# Altium footprint library Power_Protection_Fuses_Ceramic_SMD.PcbLib: 1 footprints
Each footprint in its own frame and in the unit in brackets; x right, y up, seen from the top. Pads: shape width x height; smd on the part's side, far side on the other; paste and mask are expansions set on the pad; w line width, h text height; cw(c..) or ccw(c..) is an arc to the next point about the centre after c.
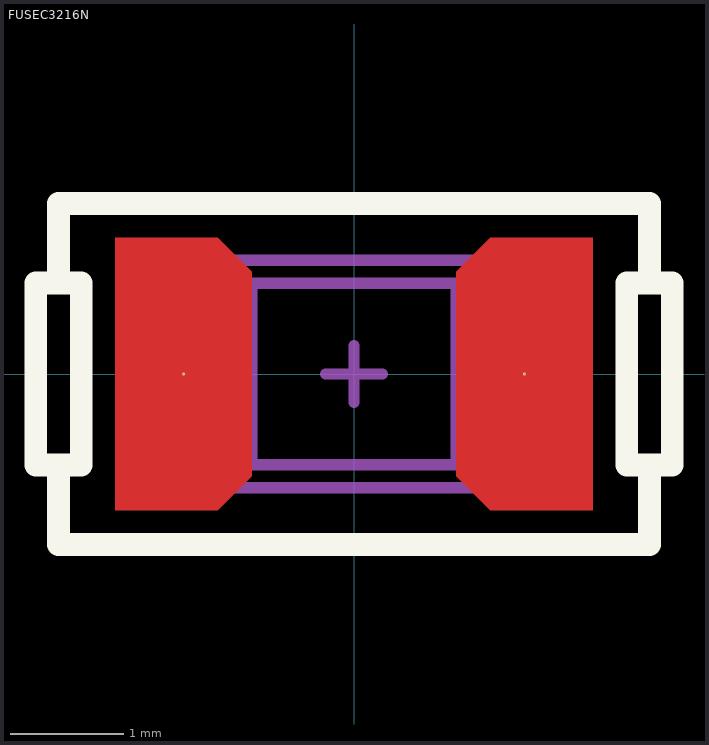
[diagram p0: the footprint, top view; thin cyan lines are the x and y axes]

## FUSEC3216N [mil]
height 21.65
pads (2):
  round 1 smd: 1(-59.06,0) 2(59.06,0)
Top Layer:
  region: -35.43,35.43 -47.24,47.24 -82.68,47.24 -82.68,-47.24 -47.24,-47.24 -35.43,-35.43
  region: 35.43,-35.43 47.24,-47.24 82.68,-47.24 82.68,47.24 47.24,47.24 35.43,35.43
Top Overlay:
  lines w7.87: -102.36,-31.5 -102.36,-59.06 102.36,-59.06 102.36,-31.5 ; -102.36,31.5 -102.36,59.06 102.36,59.06 102.36,31.5 ; -110.24,-31.5 -110.24,31.5 -94.49,31.5 -94.49,-31.5 -110.24,-31.5 ; 94.49,-31.5 110.24,-31.5 110.24,31.5 94.49,31.5 94.49,-31.5
Top Package:
  lines w3.94: -35.43,-31.5 -35.43,31.5 ; 35.43,-31.5 35.43,31.5 ; -62.99,-31.5 -62.99,31.5 62.99,31.5 62.99,-31.5 -62.99,-31.5
Top Comment:
  text ".Comment" at -19.23,83.79 h59.06
Top Designator:
  text ".Designator" at -13.76,102.19 h59.06
Top Border:
  lines w3.94: -9.84,0 9.84,0 ; 0,-9.84 0,9.84 ; -66.93,-39.37 66.93,-39.37 66.93,39.37 -66.93,39.37 -66.93,-39.37
3D body "FUSEC3116.step": height 23.89, standoff 0, extent -61.02,-30.51 61.02,30.51